# Altium schematic symbol library kmilo17pet-Maxim_Sensors.SchLib: 1172 symbols (part 55 of 61)
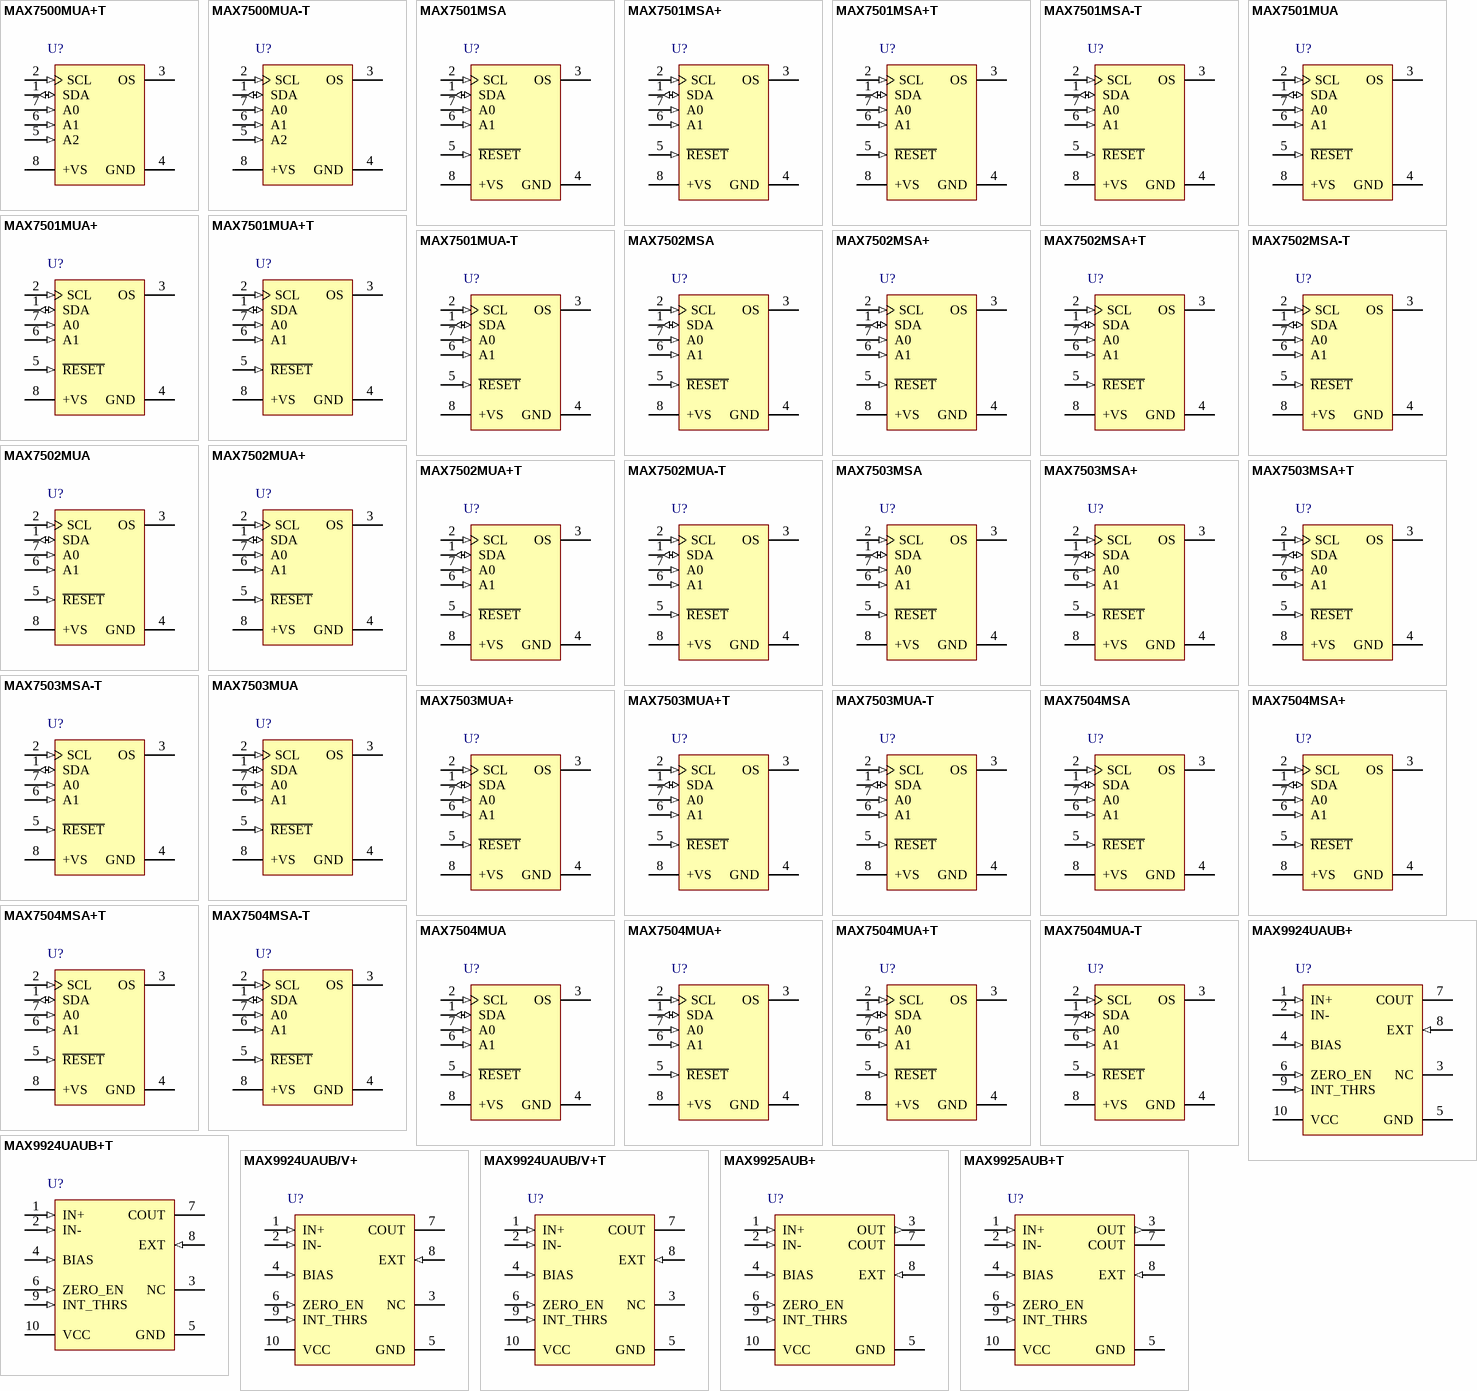
[diagram p87: symbols MAX7500MUA+T to MAX9925AUB+T]

## MAX7502MSA+
designator U?
Digital Temperature Sensor prevents bus lock up, 11 Bits Temperature Resolution, -55 to 125 degC, 8-Pin SOIC (S8+2), Pb-Free; Generic Part Number: MAX7502; PartNumber: MAX7502MSA+; Alarm Output: Overt; Functions: Standalone Thermostat; Interface: 2-Wire/I2C/SMBus; Multi Droppable: Yes; Parasite Pwr.: No; DatasheetVersion: Rev. 4; PackageVersion: Rev. D, 10/2012; PackageReference: S8+2; PackageDescription: 8-Pin Small-Outline IC, Narrow (0.15in) (S8+2), Body 4.90 x 3.90 mm, Pitch 1.27 mm; Supplier 1: Digi-Key; Supplier Part Number 1: MAX7502MSA+-ND; Supplier 2: Mouser; Supplier Part Number 2: 700-MAX7502MSA; Mounting Technology: Surface Mount; Code_JEDEC: MS012; ComponentLink1Description: Manufacturer URL; ComponentLink1URL: http://www.maximintegrated.com/; ComponentLink2Description: Datasheet; ComponentLink2URL: http://datasheets.maximintegrated.com/en/ds/MAX7500-MAX7504.pdf; ComponentLink3Description: Package Specification; ComponentLink3URL: http://pdfserv.maximintegrated.com/package_dwgs/21-0041.PDF
footprint MAXM-S8+2_N (SOIC, 8-Leads, Body 4.90x3.90mm, Pitch 1.27mm, IPC Medium Density)
footprint MAXM-S8+2_L (SOIC, 8-Leads, Body 4.90x3.90mm, Pitch 1.27mm, IPC High Density)
footprint MAXM-S8+2_M (SOIC, 8-Leads, Body 4.90x3.90mm, Pitch 1.27mm, IPC Low Density)
pins: 1 SDA (io) "Serial Data Input/Output Line. Open drain. Connect SDA to a pullup resistor.", 2 SCL (in) "Serial Data Clock Input. Open drain. Connect SCL to a pullup resistor.", 3 OS (oc) "Overtemperature Shutdown Output. Open drain. Connect OS to a pullup resistor.", 4 GND (power) "Ground", 5 ~{RESET} (in) "Active-Low Reset Input. Pull R\E\S\E\T\ low for longer than the minimum reset pulse width to reset the I2C bus and all internal registers to their POR values.", 6 A1 (in) "2-Wire Interface Address Input. Connect A1 to GND or +VS to set the desired I2C bus address. Do not leave unconnected (see Table 1).", 7 A0 (in) "2-Wire Interface Address Input. Connect A0 to GND or +VS to set the desired I2C bus address. Do not leave unconnected (see Table 1).", 8 +VS (power) "Positive Supply Voltage Input. Bypass to GND with a 0.1uF bypass capacitor."

## MAX7502MSA+T
designator U?
Digital Temperature Sensor prevents bus lock up, 11 Bits Temperature Resolution, -55 to 125 degC, 8-Pin SOIC (S8+2), Pb-Free, Tape and Reel; Generic Part Number: MAX7502; PartNumber: MAX7502MSA+T; Alarm Output: Overt; Functions: Standalone Thermostat; Interface: 2-Wire/I2C/SMBus; Multi Droppable: Yes; Parasite Pwr.: No; DatasheetVersion: Rev. 4; PackageVersion: Rev. D, 10/2012; PackageReference: S8+2; PackageDescription: 8-Pin Small-Outline IC, Narrow (0.15in) (S8+2), Body 4.90 x 3.90 mm, Pitch 1.27 mm; Supplier 1: Digi-Key; Supplier Part Number 1: MAX7502MSA+T-ND; Supplier 2: Mouser; Supplier Part Number 2: 700-MAX7502MSAT; Packing: Tape and Reel; Mounting Technology: Surface Mount; Code_JEDEC: MS012; ComponentLink1Description: Manufacturer URL; ComponentLink1URL: http://www.maximintegrated.com/; ComponentLink2Description: Datasheet; ComponentLink2URL: http://datasheets.maximintegrated.com/en/ds/MAX7500-MAX7504.pdf; ComponentLink3Description: Package Specification; ComponentLink3URL: http://pdfserv.maximintegrated.com/package_dwgs/21-0041.PDF
footprint MAXM-S8+2_N (SOIC, 8-Leads, Body 4.90x3.90mm, Pitch 1.27mm, IPC Medium Density)
footprint MAXM-S8+2_L (SOIC, 8-Leads, Body 4.90x3.90mm, Pitch 1.27mm, IPC High Density)
footprint MAXM-S8+2_M (SOIC, 8-Leads, Body 4.90x3.90mm, Pitch 1.27mm, IPC Low Density)
pins: 1 SDA (io) "Serial Data Input/Output Line. Open drain. Connect SDA to a pullup resistor.", 2 SCL (in) "Serial Data Clock Input. Open drain. Connect SCL to a pullup resistor.", 3 OS (oc) "Overtemperature Shutdown Output. Open drain. Connect OS to a pullup resistor.", 4 GND (power) "Ground", 5 ~{RESET} (in) "Active-Low Reset Input. Pull R\E\S\E\T\ low for longer than the minimum reset pulse width to reset the I2C bus and all internal registers to their POR values.", 6 A1 (in) "2-Wire Interface Address Input. Connect A1 to GND or +VS to set the desired I2C bus address. Do not leave unconnected (see Table 1).", 7 A0 (in) "2-Wire Interface Address Input. Connect A0 to GND or +VS to set the desired I2C bus address. Do not leave unconnected (see Table 1).", 8 +VS (power) "Positive Supply Voltage Input. Bypass to GND with a 0.1uF bypass capacitor."

## MAX7502MSA-T
designator U?
Digital Temperature Sensor prevents bus lock up, 11 Bits Temperature Resolution, -55 to 125 degC, 8-Pin SOIC (S8-2), Tape and Reel; Generic Part Number: MAX7502; PartNumber: MAX7502MSA-T; Alarm Output: Overt; Functions: Standalone Thermostat; Interface: 2-Wire/I2C/SMBus; Multi Droppable: Yes; Parasite Pwr.: No; DatasheetVersion: Rev. 4; PackageVersion: Rev. D, 10/2012; PackageReference: S8-2; PackageDescription: 8-Pin Small-Outline IC, Narrow (0.15in) (S8-2), Body 4.90 x 3.90 mm, Pitch 1.27 mm; Supplier 1: Mouser; Supplier Part Number 1: N/A; Packing: Tape and Reel; Mounting Technology: Surface Mount; Code_JEDEC: MS012; ComponentLink1Description: Manufacturer URL; ComponentLink1URL: http://www.maximintegrated.com/; ComponentLink2Description: Datasheet; ComponentLink2URL: http://datasheets.maximintegrated.com/en/ds/MAX7500-MAX7504.pdf; ComponentLink3Description: Package Specification; ComponentLink3URL: http://pdfserv.maximintegrated.com/package_dwgs/21-0041.PDF
footprint MAXM-S8-2_N (SOIC, 8-Leads, Body 4.90x3.90mm, Pitch 1.27mm, IPC Medium Density)
footprint MAXM-S8-2_L (SOIC, 8-Leads, Body 4.90x3.90mm, Pitch 1.27mm, IPC High Density)
footprint MAXM-S8-2_M (SOIC, 8-Leads, Body 4.90x3.90mm, Pitch 1.27mm, IPC Low Density)
pins: 1 SDA (io) "Serial Data Input/Output Line. Open drain. Connect SDA to a pullup resistor.", 2 SCL (in) "Serial Data Clock Input. Open drain. Connect SCL to a pullup resistor.", 3 OS (oc) "Overtemperature Shutdown Output. Open drain. Connect OS to a pullup resistor.", 4 GND (power) "Ground", 5 ~{RESET} (in) "Active-Low Reset Input. Pull R\E\S\E\T\ low for longer than the minimum reset pulse width to reset the I2C bus and all internal registers to their POR values.", 6 A1 (in) "2-Wire Interface Address Input. Connect A1 to GND or +VS to set the desired I2C bus address. Do not leave unconnected (see Table 1).", 7 A0 (in) "2-Wire Interface Address Input. Connect A0 to GND or +VS to set the desired I2C bus address. Do not leave unconnected (see Table 1).", 8 +VS (power) "Positive Supply Voltage Input. Bypass to GND with a 0.1uF bypass capacitor."

## MAX7502MUA
designator U?
Digital Temperature Sensor prevents bus lock up, 11 Bits Temperature Resolution, -55 to 125 degC, 8-Pin SOP (U8-1); Generic Part Number: MAX7502; PartNumber: MAX7502MUA; Alarm Output: Overt; Functions: Standalone Thermostat; Interface: 2-Wire/I2C/SMBus; Multi Droppable: Yes; Parasite Pwr.: No; DatasheetVersion: Rev. 4; PackageVersion: Rev. L, 08/2009; PackageReference: U8-1; PackageDescription: 8-Pin Micro-MAX, Thin Shrink Small-Outline (U8-1), Body 3 x 3 mm, Pitch 0.65mm; Supplier 1: Mouser; Supplier Part Number 1: N/A; Mounting Technology: Surface Mount; Code_JEDEC: MO-187; ComponentLink1Description: Manufacturer URL; ComponentLink1URL: http://www.maximintegrated.com/; ComponentLink2Description: Datasheet; ComponentLink2URL: http://datasheets.maximintegrated.com/en/ds/MAX7500-MAX7504.pdf; ComponentLink3Description: Package Specification; ComponentLink3URL: http://pdfserv.maximintegrated.com/package_dwgs/21-0036.PDF
footprint MAXM-U8-1_N (SOP, 8-Leads, Body 3x3mm, Pitch 0.65mm, IPC Medium Density)
footprint MAXM-U8-1_L (SOP, 8-Leads, Body 3x3mm, Pitch 0.65mm, IPC High Density)
footprint MAXM-U8-1_M (SOP, 8-Leads, Body 3x3mm, Pitch 0.65mm, IPC Low Density)
pins: 1 SDA (io) "Serial Data Input/Output Line. Open drain. Connect SDA to a pullup resistor.", 2 SCL (in) "Serial Data Clock Input. Open drain. Connect SCL to a pullup resistor.", 3 OS (oc) "Overtemperature Shutdown Output. Open drain. Connect OS to a pullup resistor.", 4 GND (power) "Ground", 5 ~{RESET} (in) "Active-Low Reset Input. Pull R\E\S\E\T\ low for longer than the minimum reset pulse width to reset the I2C bus and all internal registers to their POR values.", 6 A1 (in) "2-Wire Interface Address Input. Connect A1 to GND or +VS to set the desired I2C bus address. Do not leave unconnected (see Table 1).", 7 A0 (in) "2-Wire Interface Address Input. Connect A0 to GND or +VS to set the desired I2C bus address. Do not leave unconnected (see Table 1).", 8 +VS (power) "Positive Supply Voltage Input. Bypass to GND with a 0.1uF bypass capacitor."

## MAX7502MUA+
designator U?
Digital Temperature Sensor prevents bus lock up, 11 Bits Temperature Resolution, -55 to 125 degC, 8-Pin SOP (U8+1), Pb-Free; Generic Part Number: MAX7502; PartNumber: MAX7502MUA+; Alarm Output: Overt; Functions: Standalone Thermostat; Interface: 2-Wire/I2C/SMBus; Multi Droppable: Yes; Parasite Pwr.: No; DatasheetVersion: Rev. 4; PackageVersion: Rev. L, 08/2009; PackageReference: U8+1; PackageDescription: 8-Pin Micro-MAX, Thin Shrink Small-Outline (U8+1), Body 3 x 3 mm, Pitch 0.65 mm; Supplier 1: Digi-Key; Supplier Part Number 1: MAX7502MUA+-ND; Supplier 2: Mouser; Supplier Part Number 2: 700-MAX7502MUA; Mounting Technology: Surface Mount; Code_JEDEC: MO-187; ComponentLink1Description: Manufacturer URL; ComponentLink1URL: http://www.maximintegrated.com/; ComponentLink2Description: Datasheet; ComponentLink2URL: http://datasheets.maximintegrated.com/en/ds/MAX7500-MAX7504.pdf; ComponentLink3Description: Package Specification; ComponentLink3URL: http://pdfserv.maximintegrated.com/package_dwgs/21-0036.PDF
footprint MAXM-U8+1_N (SOP, 8-Leads, Body 3x3mm, Pitch 0.65mm, IPC Medium Density)
footprint MAXM-U8+1_L (SOP, 8-Leads, Body 3x3mm, Pitch 0.65mm, IPC High Density)
footprint MAXM-U8+1_M (SOP, 8-Leads, Body 3x3mm, Pitch 0.65mm, IPC Low Density)
pins: 1 SDA (io) "Serial Data Input/Output Line. Open drain. Connect SDA to a pullup resistor.", 2 SCL (in) "Serial Data Clock Input. Open drain. Connect SCL to a pullup resistor.", 3 OS (oc) "Overtemperature Shutdown Output. Open drain. Connect OS to a pullup resistor.", 4 GND (power) "Ground", 5 ~{RESET} (in) "Active-Low Reset Input. Pull R\E\S\E\T\ low for longer than the minimum reset pulse width to reset the I2C bus and all internal registers to their POR values.", 6 A1 (in) "2-Wire Interface Address Input. Connect A1 to GND or +VS to set the desired I2C bus address. Do not leave unconnected (see Table 1).", 7 A0 (in) "2-Wire Interface Address Input. Connect A0 to GND or +VS to set the desired I2C bus address. Do not leave unconnected (see Table 1).", 8 +VS (power) "Positive Supply Voltage Input. Bypass to GND with a 0.1uF bypass capacitor."

## MAX7502MUA+T
designator U?
Digital Temperature Sensor prevents bus lock up, 11 Bits Temperature Resolution, -55 to 125 degC, 8-Pin SOP (U8+1), Pb-Free, Tape and Reel; Generic Part Number: MAX7502; PartNumber: MAX7502MUA+T; Alarm Output: Overt; Functions: Standalone Thermostat; Interface: 2-Wire/I2C/SMBus; Multi Droppable: Yes; Parasite Pwr.: No; DatasheetVersion: Rev. 4; PackageVersion: Rev. L, 08/2009; PackageReference: U8+1; PackageDescription: 8-Pin Micro-MAX, Thin Shrink Small-Outline (U8+1), Body 3 x 3 mm, Pitch 0.65 mm; Supplier 1: Digi-Key; Supplier Part Number 1: MAX7502MUA+T-ND; Supplier 2: Mouser; Supplier Part Number 2: 700-MAX7502MUAT; Packing: Tape and Reel; Mounting Technology: Surface Mount; Code_JEDEC: MO-187; ComponentLink1Description: Manufacturer URL; ComponentLink1URL: http://www.maximintegrated.com/; ComponentLink2Description: Datasheet; ComponentLink2URL: http://datasheets.maximintegrated.com/en/ds/MAX7500-MAX7504.pdf; ComponentLink3Description: Package Specification; ComponentLink3URL: http://pdfserv.maximintegrated.com/package_dwgs/21-0036.PDF
footprint MAXM-U8+1_N (SOP, 8-Leads, Body 3x3mm, Pitch 0.65mm, IPC Medium Density)
footprint MAXM-U8+1_L (SOP, 8-Leads, Body 3x3mm, Pitch 0.65mm, IPC High Density)
footprint MAXM-U8+1_M (SOP, 8-Leads, Body 3x3mm, Pitch 0.65mm, IPC Low Density)
pins: 1 SDA (io) "Serial Data Input/Output Line. Open drain. Connect SDA to a pullup resistor.", 2 SCL (in) "Serial Data Clock Input. Open drain. Connect SCL to a pullup resistor.", 3 OS (oc) "Overtemperature Shutdown Output. Open drain. Connect OS to a pullup resistor.", 4 GND (power) "Ground", 5 ~{RESET} (in) "Active-Low Reset Input. Pull R\E\S\E\T\ low for longer than the minimum reset pulse width to reset the I2C bus and all internal registers to their POR values.", 6 A1 (in) "2-Wire Interface Address Input. Connect A1 to GND or +VS to set the desired I2C bus address. Do not leave unconnected (see Table 1).", 7 A0 (in) "2-Wire Interface Address Input. Connect A0 to GND or +VS to set the desired I2C bus address. Do not leave unconnected (see Table 1).", 8 +VS (power) "Positive Supply Voltage Input. Bypass to GND with a 0.1uF bypass capacitor."

## MAX7502MUA-T
designator U?
Digital Temperature Sensor prevents bus lock up, 11 Bits Temperature Resolution, -55 to 125 degC, 8-Pin SOP (U8-1), Tape and Reel; Generic Part Number: MAX7502; PartNumber: MAX7502MUA-T; Alarm Output: Overt; Functions: Standalone Thermostat; Interface: 2-Wire/I2C/SMBus; Multi Droppable: Yes; Parasite Pwr.: No; DatasheetVersion: Rev. 4; PackageVersion: Rev. L, 08/2009; PackageReference: U8-1; PackageDescription: 8-Pin Micro-MAX, Thin Shrink Small-Outline (U8-1), Body 3 x 3 mm, Pitch 0.65mm; Supplier 1: Mouser; Supplier Part Number 1: N/A; Packing: Tape and Reel; Mounting Technology: Surface Mount; Code_JEDEC: MO-187; ComponentLink1Description: Manufacturer URL; ComponentLink1URL: http://www.maximintegrated.com/; ComponentLink2Description: Datasheet; ComponentLink2URL: http://datasheets.maximintegrated.com/en/ds/MAX7500-MAX7504.pdf; ComponentLink3Description: Package Specification; ComponentLink3URL: http://pdfserv.maximintegrated.com/package_dwgs/21-0036.PDF
footprint MAXM-U8-1_N (SOP, 8-Leads, Body 3x3mm, Pitch 0.65mm, IPC Medium Density)
footprint MAXM-U8-1_L (SOP, 8-Leads, Body 3x3mm, Pitch 0.65mm, IPC High Density)
footprint MAXM-U8-1_M (SOP, 8-Leads, Body 3x3mm, Pitch 0.65mm, IPC Low Density)
pins: 1 SDA (io) "Serial Data Input/Output Line. Open drain. Connect SDA to a pullup resistor.", 2 SCL (in) "Serial Data Clock Input. Open drain. Connect SCL to a pullup resistor.", 3 OS (oc) "Overtemperature Shutdown Output. Open drain. Connect OS to a pullup resistor.", 4 GND (power) "Ground", 5 ~{RESET} (in) "Active-Low Reset Input. Pull R\E\S\E\T\ low for longer than the minimum reset pulse width to reset the I2C bus and all internal registers to their POR values.", 6 A1 (in) "2-Wire Interface Address Input. Connect A1 to GND or +VS to set the desired I2C bus address. Do not leave unconnected (see Table 1).", 7 A0 (in) "2-Wire Interface Address Input. Connect A0 to GND or +VS to set the desired I2C bus address. Do not leave unconnected (see Table 1).", 8 +VS (power) "Positive Supply Voltage Input. Bypass to GND with a 0.1uF bypass capacitor."

## MAX7503MSA
designator U?
Digital Temperature Sensor and Thermal Watchdog, 11 Bits Temperature Resolution, -55 to 125 degC, 8-Pin SOIC (S8-2); Generic Part Number: MAX7503; PartNumber: MAX7503MSA; Alarm Output: Overt; Functions: Standalone Thermostat; Interface: 2-Wire/I2C/SMBus; Multi Droppable: Yes; Parasite Pwr.: No; DatasheetVersion: Rev. 4; PackageVersion: Rev. D, 10/2012; PackageReference: S8-2; PackageDescription: 8-Pin Small-Outline IC, Narrow (0.15in) (S8-2), Body 4.90 x 3.90 mm, Pitch 1.27 mm; Supplier 1: Mouser; Supplier Part Number 1: N/A; Mounting Technology: Surface Mount; Code_JEDEC: MS012; ComponentLink1Description: Manufacturer URL; ComponentLink1URL: http://www.maximintegrated.com/; ComponentLink2Description: Datasheet; ComponentLink2URL: http://datasheets.maximintegrated.com/en/ds/MAX7500-MAX7504.pdf; ComponentLink3Description: Package Specification; ComponentLink3URL: http://pdfserv.maximintegrated.com/package_dwgs/21-0041.PDF
footprint MAXM-S8-2_N (SOIC, 8-Leads, Body 4.90x3.90mm, Pitch 1.27mm, IPC Medium Density)
footprint MAXM-S8-2_L (SOIC, 8-Leads, Body 4.90x3.90mm, Pitch 1.27mm, IPC High Density)
footprint MAXM-S8-2_M (SOIC, 8-Leads, Body 4.90x3.90mm, Pitch 1.27mm, IPC Low Density)
pins: 1 SDA (io) "Serial Data Input/Output Line. Open drain. Connect SDA to a pullup resistor.", 2 SCL (in) "Serial Data Clock Input. Open drain. Connect SCL to a pullup resistor.", 3 OS (oc) "Overtemperature Shutdown Output. Open drain. Connect OS to a pullup resistor.", 4 GND (power) "Ground", 5 ~{RESET} (in) "Active-Low Reset Input. Pull R\E\S\E\T\ low for longer than the minimum reset pulse width to reset the I2C bus and all internal registers to their POR values.", 6 A1 (in) "2-Wire Interface Address Input. Connect A1 to GND or +VS to set the desired I2C bus address. Do not leave unconnected (see Table 1).", 7 A0 (in) "2-Wire Interface Address Input. Connect A0 to GND or +VS to set the desired I2C bus address. Do not leave unconnected (see Table 1).", 8 +VS (power) "Positive Supply Voltage Input. Bypass to GND with a 0.1uF bypass capacitor."

## MAX7503MSA+
designator U?
Digital Temperature Sensor and Thermal Watchdog, 11 Bits Temperature Resolution, -55 to 125 degC, 8-Pin SOIC (S8+2), Pb-Free; Generic Part Number: MAX7503; PartNumber: MAX7503MSA+; Alarm Output: Overt; Functions: Standalone Thermostat; Interface: 2-Wire/I2C/SMBus; Multi Droppable: Yes; Parasite Pwr.: No; DatasheetVersion: Rev. 4; PackageVersion: Rev. D, 10/2012; PackageReference: S8+2; PackageDescription: 8-Pin Small-Outline IC, Narrow (0.15in) (S8+2), Body 4.90 x 3.90 mm, Pitch 1.27 mm; Supplier 1: Digi-Key; Supplier Part Number 1: MAX7503MSA+-ND; Supplier 2: Mouser; Supplier Part Number 2: 700-MAX7503MSA; Mounting Technology: Surface Mount; Code_JEDEC: MS012; ComponentLink1Description: Manufacturer URL; ComponentLink1URL: http://www.maximintegrated.com/; ComponentLink2Description: Datasheet; ComponentLink2URL: http://datasheets.maximintegrated.com/en/ds/MAX7500-MAX7504.pdf; ComponentLink3Description: Package Specification; ComponentLink3URL: http://pdfserv.maximintegrated.com/package_dwgs/21-0041.PDF
footprint MAXM-S8+2_N (SOIC, 8-Leads, Body 4.90x3.90mm, Pitch 1.27mm, IPC Medium Density)
footprint MAXM-S8+2_L (SOIC, 8-Leads, Body 4.90x3.90mm, Pitch 1.27mm, IPC High Density)
footprint MAXM-S8+2_M (SOIC, 8-Leads, Body 4.90x3.90mm, Pitch 1.27mm, IPC Low Density)
pins: 1 SDA (io) "Serial Data Input/Output Line. Open drain. Connect SDA to a pullup resistor.", 2 SCL (in) "Serial Data Clock Input. Open drain. Connect SCL to a pullup resistor.", 3 OS (oc) "Overtemperature Shutdown Output. Open drain. Connect OS to a pullup resistor.", 4 GND (power) "Ground", 5 ~{RESET} (in) "Active-Low Reset Input. Pull R\E\S\E\T\ low for longer than the minimum reset pulse width to reset the I2C bus and all internal registers to their POR values.", 6 A1 (in) "2-Wire Interface Address Input. Connect A1 to GND or +VS to set the desired I2C bus address. Do not leave unconnected (see Table 1).", 7 A0 (in) "2-Wire Interface Address Input. Connect A0 to GND or +VS to set the desired I2C bus address. Do not leave unconnected (see Table 1).", 8 +VS (power) "Positive Supply Voltage Input. Bypass to GND with a 0.1uF bypass capacitor."

## MAX7503MSA+T
designator U?
Digital Temperature Sensor and Thermal Watchdog, 11 Bits Temperature Resolution, -55 to 125 degC, 8-Pin SOIC (S8+2), Pb-Free, Tape and Reel; Generic Part Number: MAX7503; PartNumber: MAX7503MSA+T; Alarm Output: Overt; Functions: Standalone Thermostat; Interface: 2-Wire/I2C/SMBus; Multi Droppable: Yes; Parasite Pwr.: No; DatasheetVersion: Rev. 4; PackageVersion: Rev. D, 10/2012; PackageReference: S8+2; PackageDescription: 8-Pin Small-Outline IC, Narrow (0.15in) (S8+2), Body 4.90 x 3.90 mm, Pitch 1.27 mm; Supplier 1: Digi-Key; Supplier Part Number 1: MAX7503MSA+T-ND; Supplier 2: Mouser; Supplier Part Number 2: 700-MAX7503MSAT; Packing: Tape and Reel; Mounting Technology: Surface Mount; Code_JEDEC: MS012; ComponentLink1Description: Manufacturer URL; ComponentLink1URL: http://www.maximintegrated.com/; ComponentLink2Description: Datasheet; ComponentLink2URL: http://datasheets.maximintegrated.com/en/ds/MAX7500-MAX7504.pdf; ComponentLink3Description: Package Specification; ComponentLink3URL: http://pdfserv.maximintegrated.com/package_dwgs/21-0041.PDF
footprint MAXM-S8+2_N (SOIC, 8-Leads, Body 4.90x3.90mm, Pitch 1.27mm, IPC Medium Density)
footprint MAXM-S8+2_L (SOIC, 8-Leads, Body 4.90x3.90mm, Pitch 1.27mm, IPC High Density)
footprint MAXM-S8+2_M (SOIC, 8-Leads, Body 4.90x3.90mm, Pitch 1.27mm, IPC Low Density)
pins: 1 SDA (io) "Serial Data Input/Output Line. Open drain. Connect SDA to a pullup resistor.", 2 SCL (in) "Serial Data Clock Input. Open drain. Connect SCL to a pullup resistor.", 3 OS (oc) "Overtemperature Shutdown Output. Open drain. Connect OS to a pullup resistor.", 4 GND (power) "Ground", 5 ~{RESET} (in) "Active-Low Reset Input. Pull R\E\S\E\T\ low for longer than the minimum reset pulse width to reset the I2C bus and all internal registers to their POR values.", 6 A1 (in) "2-Wire Interface Address Input. Connect A1 to GND or +VS to set the desired I2C bus address. Do not leave unconnected (see Table 1).", 7 A0 (in) "2-Wire Interface Address Input. Connect A0 to GND or +VS to set the desired I2C bus address. Do not leave unconnected (see Table 1).", 8 +VS (power) "Positive Supply Voltage Input. Bypass to GND with a 0.1uF bypass capacitor."

## MAX7503MSA-T
designator U?
Digital Temperature Sensor and Thermal Watchdog, 11 Bits Temperature Resolution, -55 to 125 degC, 8-Pin SOIC (S8-2), Tape and Reel; Generic Part Number: MAX7503; PartNumber: MAX7503MSA-T; Alarm Output: Overt; Functions: Standalone Thermostat; Interface: 2-Wire/I2C/SMBus; Multi Droppable: Yes; Parasite Pwr.: No; DatasheetVersion: Rev. 4; PackageVersion: Rev. D, 10/2012; PackageReference: S8-2; PackageDescription: 8-Pin Small-Outline IC, Narrow (0.15in) (S8-2), Body 4.90 x 3.90 mm, Pitch 1.27 mm; Supplier 1: Mouser; Supplier Part Number 1: N/A; Packing: Tape and Reel; Mounting Technology: Surface Mount; Code_JEDEC: MS012; ComponentLink1Description: Manufacturer URL; ComponentLink1URL: http://www.maximintegrated.com/; ComponentLink2Description: Datasheet; ComponentLink2URL: http://datasheets.maximintegrated.com/en/ds/MAX7500-MAX7504.pdf; ComponentLink3Description: Package Specification; ComponentLink3URL: http://pdfserv.maximintegrated.com/package_dwgs/21-0041.PDF
footprint MAXM-S8-2_N (SOIC, 8-Leads, Body 4.90x3.90mm, Pitch 1.27mm, IPC Medium Density)
footprint MAXM-S8-2_L (SOIC, 8-Leads, Body 4.90x3.90mm, Pitch 1.27mm, IPC High Density)
footprint MAXM-S8-2_M (SOIC, 8-Leads, Body 4.90x3.90mm, Pitch 1.27mm, IPC Low Density)
pins: 1 SDA (io) "Serial Data Input/Output Line. Open drain. Connect SDA to a pullup resistor.", 2 SCL (in) "Serial Data Clock Input. Open drain. Connect SCL to a pullup resistor.", 3 OS (oc) "Overtemperature Shutdown Output. Open drain. Connect OS to a pullup resistor.", 4 GND (power) "Ground", 5 ~{RESET} (in) "Active-Low Reset Input. Pull R\E\S\E\T\ low for longer than the minimum reset pulse width to reset the I2C bus and all internal registers to their POR values.", 6 A1 (in) "2-Wire Interface Address Input. Connect A1 to GND or +VS to set the desired I2C bus address. Do not leave unconnected (see Table 1).", 7 A0 (in) "2-Wire Interface Address Input. Connect A0 to GND or +VS to set the desired I2C bus address. Do not leave unconnected (see Table 1).", 8 +VS (power) "Positive Supply Voltage Input. Bypass to GND with a 0.1uF bypass capacitor."

## MAX7503MUA
designator U?
Digital Temperature Sensor and Thermal Watchdog, 11 Bits Temperature Resolution, -55 to 125 degC, 8-Pin SOP (U8-1); Generic Part Number: MAX7503; PartNumber: MAX7503MUA; Alarm Output: Overt; Functions: Standalone Thermostat; Interface: 2-Wire/I2C/SMBus; Multi Droppable: Yes; Parasite Pwr.: No; DatasheetVersion: Rev. 4; PackageVersion: Rev. L, 08/2009; PackageReference: U8-1; PackageDescription: 8-Pin Micro-MAX, Thin Shrink Small-Outline (U8-1), Body 3 x 3 mm, Pitch 0.65mm; Supplier 1: Mouser; Supplier Part Number 1: N/A; Mounting Technology: Surface Mount; Code_JEDEC: MO-187; ComponentLink1Description: Manufacturer URL; ComponentLink1URL: http://www.maximintegrated.com/; ComponentLink2Description: Datasheet; ComponentLink2URL: http://datasheets.maximintegrated.com/en/ds/MAX7500-MAX7504.pdf; ComponentLink3Description: Package Specification; ComponentLink3URL: http://pdfserv.maximintegrated.com/package_dwgs/21-0036.PDF
footprint MAXM-U8-1_N (SOP, 8-Leads, Body 3x3mm, Pitch 0.65mm, IPC Medium Density)
footprint MAXM-U8-1_L (SOP, 8-Leads, Body 3x3mm, Pitch 0.65mm, IPC High Density)
footprint MAXM-U8-1_M (SOP, 8-Leads, Body 3x3mm, Pitch 0.65mm, IPC Low Density)
pins: 1 SDA (io) "Serial Data Input/Output Line. Open drain. Connect SDA to a pullup resistor.", 2 SCL (in) "Serial Data Clock Input. Open drain. Connect SCL to a pullup resistor.", 3 OS (oc) "Overtemperature Shutdown Output. Open drain. Connect OS to a pullup resistor.", 4 GND (power) "Ground", 5 ~{RESET} (in) "Active-Low Reset Input. Pull R\E\S\E\T\ low for longer than the minimum reset pulse width to reset the I2C bus and all internal registers to their POR values.", 6 A1 (in) "2-Wire Interface Address Input. Connect A1 to GND or +VS to set the desired I2C bus address. Do not leave unconnected (see Table 1).", 7 A0 (in) "2-Wire Interface Address Input. Connect A0 to GND or +VS to set the desired I2C bus address. Do not leave unconnected (see Table 1).", 8 +VS (power) "Positive Supply Voltage Input. Bypass to GND with a 0.1uF bypass capacitor."

## MAX7503MUA+
designator U?
Digital Temperature Sensor and Thermal Watchdog, 11 Bits Temperature Resolution, -55 to 125 degC, 8-Pin SOP (U8+1), Pb-Free; Generic Part Number: MAX7503; PartNumber: MAX7503MUA+; Alarm Output: Overt; Functions: Standalone Thermostat; Interface: 2-Wire/I2C/SMBus; Multi Droppable: Yes; Parasite Pwr.: No; DatasheetVersion: Rev. 4; PackageVersion: Rev. L, 08/2009; PackageReference: U8+1; PackageDescription: 8-Pin Micro-MAX, Thin Shrink Small-Outline (U8+1), Body 3 x 3 mm, Pitch 0.65 mm; Supplier 1: Digi-Key; Supplier Part Number 1: MAX7503MUA+-ND; Supplier 2: Mouser; Supplier Part Number 2: 700-MAX7503MUA; Mounting Technology: Surface Mount; Code_JEDEC: MO-187; ComponentLink1Description: Manufacturer URL; ComponentLink1URL: http://www.maximintegrated.com/; ComponentLink2Description: Datasheet; ComponentLink2URL: http://datasheets.maximintegrated.com/en/ds/MAX7500-MAX7504.pdf; ComponentLink3Description: Package Specification; ComponentLink3URL: http://pdfserv.maximintegrated.com/package_dwgs/21-0036.PDF
footprint MAXM-U8+1_N (SOP, 8-Leads, Body 3x3mm, Pitch 0.65mm, IPC Medium Density)
footprint MAXM-U8+1_L (SOP, 8-Leads, Body 3x3mm, Pitch 0.65mm, IPC High Density)
footprint MAXM-U8+1_M (SOP, 8-Leads, Body 3x3mm, Pitch 0.65mm, IPC Low Density)
pins: 1 SDA (io) "Serial Data Input/Output Line. Open drain. Connect SDA to a pullup resistor.", 2 SCL (in) "Serial Data Clock Input. Open drain. Connect SCL to a pullup resistor.", 3 OS (oc) "Overtemperature Shutdown Output. Open drain. Connect OS to a pullup resistor.", 4 GND (power) "Ground", 5 ~{RESET} (in) "Active-Low Reset Input. Pull R\E\S\E\T\ low for longer than the minimum reset pulse width to reset the I2C bus and all internal registers to their POR values.", 6 A1 (in) "2-Wire Interface Address Input. Connect A1 to GND or +VS to set the desired I2C bus address. Do not leave unconnected (see Table 1).", 7 A0 (in) "2-Wire Interface Address Input. Connect A0 to GND or +VS to set the desired I2C bus address. Do not leave unconnected (see Table 1).", 8 +VS (power) "Positive Supply Voltage Input. Bypass to GND with a 0.1uF bypass capacitor."

## MAX7503MUA+T
designator U?
Digital Temperature Sensor and Thermal Watchdog, 11 Bits Temperature Resolution, -55 to 125 degC, 8-Pin SOP (U8+1), Pb-Free, Tape and Reel; Generic Part Number: MAX7503; PartNumber: MAX7503MUA+T; Alarm Output: Overt; Functions: Standalone Thermostat; Interface: 2-Wire/I2C/SMBus; Multi Droppable: Yes; Parasite Pwr.: No; DatasheetVersion: Rev. 4; PackageVersion: Rev. L, 08/2009; PackageReference: U8+1; PackageDescription: 8-Pin Micro-MAX, Thin Shrink Small-Outline (U8+1), Body 3 x 3 mm, Pitch 0.65 mm; Supplier 1: Digi-Key; Supplier Part Number 1: MAX7503MUA+T-ND; Supplier 2: Mouser; Supplier Part Number 2: 700-MAX7503MUAT; Packing: Tape and Reel; Mounting Technology: Surface Mount; Code_JEDEC: MO-187; ComponentLink1Description: Manufacturer URL; ComponentLink1URL: http://www.maximintegrated.com/; ComponentLink2Description: Datasheet; ComponentLink2URL: http://datasheets.maximintegrated.com/en/ds/MAX7500-MAX7504.pdf; ComponentLink3Description: Package Specification; ComponentLink3URL: http://pdfserv.maximintegrated.com/package_dwgs/21-0036.PDF
footprint MAXM-U8+1_N (SOP, 8-Leads, Body 3x3mm, Pitch 0.65mm, IPC Medium Density)
footprint MAXM-U8+1_L (SOP, 8-Leads, Body 3x3mm, Pitch 0.65mm, IPC High Density)
footprint MAXM-U8+1_M (SOP, 8-Leads, Body 3x3mm, Pitch 0.65mm, IPC Low Density)
pins: 1 SDA (io) "Serial Data Input/Output Line. Open drain. Connect SDA to a pullup resistor.", 2 SCL (in) "Serial Data Clock Input. Open drain. Connect SCL to a pullup resistor.", 3 OS (oc) "Overtemperature Shutdown Output. Open drain. Connect OS to a pullup resistor.", 4 GND (power) "Ground", 5 ~{RESET} (in) "Active-Low Reset Input. Pull R\E\S\E\T\ low for longer than the minimum reset pulse width to reset the I2C bus and all internal registers to their POR values.", 6 A1 (in) "2-Wire Interface Address Input. Connect A1 to GND or +VS to set the desired I2C bus address. Do not leave unconnected (see Table 1).", 7 A0 (in) "2-Wire Interface Address Input. Connect A0 to GND or +VS to set the desired I2C bus address. Do not leave unconnected (see Table 1).", 8 +VS (power) "Positive Supply Voltage Input. Bypass to GND with a 0.1uF bypass capacitor."

## MAX7503MUA-T
designator U?
Digital Temperature Sensor and Thermal Watchdog, 11 Bits Temperature Resolution, -55 to 125 degC, 8-Pin SOP (U8-1), Tape and Reel; Generic Part Number: MAX7503; PartNumber: MAX7503MUA-T; Alarm Output: Overt; Functions: Standalone Thermostat; Interface: 2-Wire/I2C/SMBus; Multi Droppable: Yes; Parasite Pwr.: No; DatasheetVersion: Rev. 4; PackageVersion: Rev. L, 08/2009; PackageReference: U8-1; PackageDescription: 8-Pin Micro-MAX, Thin Shrink Small-Outline (U8-1), Body 3 x 3 mm, Pitch 0.65mm; Supplier 1: Mouser; Supplier Part Number 1: N/A; Packing: Tape and Reel; Mounting Technology: Surface Mount; Code_JEDEC: MO-187; ComponentLink1Description: Manufacturer URL; ComponentLink1URL: http://www.maximintegrated.com/; ComponentLink2Description: Datasheet; ComponentLink2URL: http://datasheets.maximintegrated.com/en/ds/MAX7500-MAX7504.pdf; ComponentLink3Description: Package Specification; ComponentLink3URL: http://pdfserv.maximintegrated.com/package_dwgs/21-0036.PDF
footprint MAXM-U8-1_N (SOP, 8-Leads, Body 3x3mm, Pitch 0.65mm, IPC Medium Density)
footprint MAXM-U8-1_L (SOP, 8-Leads, Body 3x3mm, Pitch 0.65mm, IPC High Density)
footprint MAXM-U8-1_M (SOP, 8-Leads, Body 3x3mm, Pitch 0.65mm, IPC Low Density)
pins: 1 SDA (io) "Serial Data Input/Output Line. Open drain. Connect SDA to a pullup resistor.", 2 SCL (in) "Serial Data Clock Input. Open drain. Connect SCL to a pullup resistor.", 3 OS (oc) "Overtemperature Shutdown Output. Open drain. Connect OS to a pullup resistor.", 4 GND (power) "Ground", 5 ~{RESET} (in) "Active-Low Reset Input. Pull R\E\S\E\T\ low for longer than the minimum reset pulse width to reset the I2C bus and all internal registers to their POR values.", 6 A1 (in) "2-Wire Interface Address Input. Connect A1 to GND or +VS to set the desired I2C bus address. Do not leave unconnected (see Table 1).", 7 A0 (in) "2-Wire Interface Address Input. Connect A0 to GND or +VS to set the desired I2C bus address. Do not leave unconnected (see Table 1).", 8 +VS (power) "Positive Supply Voltage Input. Bypass to GND with a 0.1uF bypass capacitor."

## MAX7504MSA
designator U?
Digital Temperature Sensor and Thermal Watchdog, -55 to 125 degC, 8-Pin SOIC (S8-2); Generic Part Number: MAX7504; PartNumber: MAX7504MSA; Alarm Output: Overt; Functions: Single Temperature Alarm; Interface: 2-Wire/I2C/SMBus; Multi Droppable: Yes; DatasheetVersion: Rev. 4; PackageVersion: Rev. D, 10/2012; PackageReference: S8-2; PackageDescription: 8-Pin Small-Outline IC, Narrow (0.15in) (S8-2), Body 4.90 x 3.90 mm, Pitch 1.27 mm; Supplier 1: Mouser; Supplier Part Number 1: N/A; Mounting Technology: Surface Mount; Code_JEDEC: MS012; ComponentLink1Description: Manufacturer URL; ComponentLink1URL: http://www.maximintegrated.com/; ComponentLink2Description: Datasheet; ComponentLink2URL: http://datasheets.maximintegrated.com/en/ds/MAX7500-MAX7504.pdf; ComponentLink3Description: Package Specification; ComponentLink3URL: http://pdfserv.maximintegrated.com/package_dwgs/21-0041.PDF
footprint MAXM-S8-2_N (SOIC, 8-Leads, Body 4.90x3.90mm, Pitch 1.27mm, IPC Medium Density)
footprint MAXM-S8-2_L (SOIC, 8-Leads, Body 4.90x3.90mm, Pitch 1.27mm, IPC High Density)
footprint MAXM-S8-2_M (SOIC, 8-Leads, Body 4.90x3.90mm, Pitch 1.27mm, IPC Low Density)
pins: 1 SDA (io) "Serial Data Input/Output Line. Open drain. Connect SDA to a pullup resistor.", 2 SCL (in) "Serial Data Clock Input. Open drain. Connect SCL to a pullup resistor.", 3 OS (oc) "Overtemperature Shutdown Output. Open drain. Connect OS to a pullup resistor.", 4 GND (power) "Ground", 5 ~{RESET} (in) "Active-Low Reset Input. Pull R\E\S\E\T\ low for longer than the minimum reset pulse width to reset the I2C bus and all internal registers to their POR values.", 6 A1 (in) "2-Wire Interface Address Input. Connect A1 to GND or +VS to set the desired I2C bus address. Do not leave unconnected (see Table 1).", 7 A0 (in) "2-Wire Interface Address Input. Connect A0 to GND or +VS to set the desired I2C bus address. Do not leave unconnected (see Table 1).", 8 +VS (power) "Positive Supply Voltage Input. Bypass to GND with a 0.1uF bypass capacitor."

## MAX7504MSA+
designator U?
Digital Temperature Sensor and Thermal Watchdog, -55 to 125 degC, 8-Pin SOIC (S8+2), Pb-Free; Generic Part Number: MAX7504; PartNumber: MAX7504MSA+; Alarm Output: Overt; Functions: Single Temperature Alarm; Interface: 2-Wire/I2C/SMBus; Multi Droppable: Yes; DatasheetVersion: Rev. 4; PackageVersion: Rev. D, 10/2012; PackageReference: S8+2; PackageDescription: 8-Pin Small-Outline IC, Narrow (0.15in) (S8+2), Body 4.90 x 3.90 mm, Pitch 1.27 mm; Supplier 1: Digi-Key; Supplier Part Number 1: MAX7504MSA+-ND; Supplier 2: Mouser; Supplier Part Number 2: 700-MAX7504MSA; Mounting Technology: Surface Mount; Code_JEDEC: MS012; ComponentLink1Description: Manufacturer URL; ComponentLink1URL: http://www.maximintegrated.com/; ComponentLink2Description: Datasheet; ComponentLink2URL: http://datasheets.maximintegrated.com/en/ds/MAX7500-MAX7504.pdf; ComponentLink3Description: Package Specification; ComponentLink3URL: http://pdfserv.maximintegrated.com/package_dwgs/21-0041.PDF
footprint MAXM-S8+2_N (SOIC, 8-Leads, Body 4.90x3.90mm, Pitch 1.27mm, IPC Medium Density)
footprint MAXM-S8+2_L (SOIC, 8-Leads, Body 4.90x3.90mm, Pitch 1.27mm, IPC High Density)
footprint MAXM-S8+2_M (SOIC, 8-Leads, Body 4.90x3.90mm, Pitch 1.27mm, IPC Low Density)
pins: 1 SDA (io) "Serial Data Input/Output Line. Open drain. Connect SDA to a pullup resistor.", 2 SCL (in) "Serial Data Clock Input. Open drain. Connect SCL to a pullup resistor.", 3 OS (oc) "Overtemperature Shutdown Output. Open drain. Connect OS to a pullup resistor.", 4 GND (power) "Ground", 5 ~{RESET} (in) "Active-Low Reset Input. Pull R\E\S\E\T\ low for longer than the minimum reset pulse width to reset the I2C bus and all internal registers to their POR values.", 6 A1 (in) "2-Wire Interface Address Input. Connect A1 to GND or +VS to set the desired I2C bus address. Do not leave unconnected (see Table 1).", 7 A0 (in) "2-Wire Interface Address Input. Connect A0 to GND or +VS to set the desired I2C bus address. Do not leave unconnected (see Table 1).", 8 +VS (power) "Positive Supply Voltage Input. Bypass to GND with a 0.1uF bypass capacitor."

## MAX7504MSA+T
designator U?
Digital Temperature Sensor and Thermal Watchdog, -55 to 125 degC, 8-Pin SOIC (S8+2), Pb-Free, Tape and Reel; Generic Part Number: MAX7504; PartNumber: MAX7504MSA+T; Alarm Output: Overt; Functions: Single Temperature Alarm; Interface: 2-Wire/I2C/SMBus; Multi Droppable: Yes; DatasheetVersion: Rev. 4; PackageVersion: Rev. D, 10/2012; PackageReference: S8+2; PackageDescription: 8-Pin Small-Outline IC, Narrow (0.15in) (S8+2), Body 4.90 x 3.90 mm, Pitch 1.27 mm; Supplier 1: Digi-Key; Supplier Part Number 1: MAX7504MSA+T-ND; Supplier 2: Mouser; Supplier Part Number 2: 700-MAX7504MSAT; Packing: Tape and Reel; Mounting Technology: Surface Mount; Code_JEDEC: MS012; ComponentLink1Description: Manufacturer URL; ComponentLink1URL: http://www.maximintegrated.com/; ComponentLink2Description: Datasheet; ComponentLink2URL: http://datasheets.maximintegrated.com/en/ds/MAX7500-MAX7504.pdf; ComponentLink3Description: Package Specification; ComponentLink3URL: http://pdfserv.maximintegrated.com/package_dwgs/21-0041.PDF
footprint MAXM-S8+2_N (SOIC, 8-Leads, Body 4.90x3.90mm, Pitch 1.27mm, IPC Medium Density)
footprint MAXM-S8+2_L (SOIC, 8-Leads, Body 4.90x3.90mm, Pitch 1.27mm, IPC High Density)
footprint MAXM-S8+2_M (SOIC, 8-Leads, Body 4.90x3.90mm, Pitch 1.27mm, IPC Low Density)
pins: 1 SDA (io) "Serial Data Input/Output Line. Open drain. Connect SDA to a pullup resistor.", 2 SCL (in) "Serial Data Clock Input. Open drain. Connect SCL to a pullup resistor.", 3 OS (oc) "Overtemperature Shutdown Output. Open drain. Connect OS to a pullup resistor.", 4 GND (power) "Ground", 5 ~{RESET} (in) "Active-Low Reset Input. Pull R\E\S\E\T\ low for longer than the minimum reset pulse width to reset the I2C bus and all internal registers to their POR values.", 6 A1 (in) "2-Wire Interface Address Input. Connect A1 to GND or +VS to set the desired I2C bus address. Do not leave unconnected (see Table 1).", 7 A0 (in) "2-Wire Interface Address Input. Connect A0 to GND or +VS to set the desired I2C bus address. Do not leave unconnected (see Table 1).", 8 +VS (power) "Positive Supply Voltage Input. Bypass to GND with a 0.1uF bypass capacitor."

## MAX7504MSA-T
designator U?
Digital Temperature Sensor and Thermal Watchdog, -55 to 125 degC, 8-Pin SOIC (S8-2), Tape and Reel; Generic Part Number: MAX7504; PartNumber: MAX7504MSA-T; Alarm Output: Overt; Functions: Single Temperature Alarm; Interface: 2-Wire/I2C/SMBus; Multi Droppable: Yes; DatasheetVersion: Rev. 4; PackageVersion: Rev. D, 10/2012; PackageReference: S8-2; PackageDescription: 8-Pin Small-Outline IC, Narrow (0.15in) (S8-2), Body 4.90 x 3.90 mm, Pitch 1.27 mm; Supplier 1: Mouser; Supplier Part Number 1: N/A; Packing: Tape and Reel; Mounting Technology: Surface Mount; Code_JEDEC: MS012; ComponentLink1Description: Manufacturer URL; ComponentLink1URL: http://www.maximintegrated.com/; ComponentLink2Description: Datasheet; ComponentLink2URL: http://datasheets.maximintegrated.com/en/ds/MAX7500-MAX7504.pdf; ComponentLink3Description: Package Specification; ComponentLink3URL: http://pdfserv.maximintegrated.com/package_dwgs/21-0041.PDF
footprint MAXM-S8-2_N (SOIC, 8-Leads, Body 4.90x3.90mm, Pitch 1.27mm, IPC Medium Density)
footprint MAXM-S8-2_L (SOIC, 8-Leads, Body 4.90x3.90mm, Pitch 1.27mm, IPC High Density)
footprint MAXM-S8-2_M (SOIC, 8-Leads, Body 4.90x3.90mm, Pitch 1.27mm, IPC Low Density)
pins: 1 SDA (io) "Serial Data Input/Output Line. Open drain. Connect SDA to a pullup resistor.", 2 SCL (in) "Serial Data Clock Input. Open drain. Connect SCL to a pullup resistor.", 3 OS (oc) "Overtemperature Shutdown Output. Open drain. Connect OS to a pullup resistor.", 4 GND (power) "Ground", 5 ~{RESET} (in) "Active-Low Reset Input. Pull R\E\S\E\T\ low for longer than the minimum reset pulse width to reset the I2C bus and all internal registers to their POR values.", 6 A1 (in) "2-Wire Interface Address Input. Connect A1 to GND or +VS to set the desired I2C bus address. Do not leave unconnected (see Table 1).", 7 A0 (in) "2-Wire Interface Address Input. Connect A0 to GND or +VS to set the desired I2C bus address. Do not leave unconnected (see Table 1).", 8 +VS (power) "Positive Supply Voltage Input. Bypass to GND with a 0.1uF bypass capacitor."

## MAX7504MUA
designator U?
Digital Temperature Sensor and Thermal Watchdog, -55 to 125 degC, 8-Pin SOP (U8-1); Generic Part Number: MAX7504; PartNumber: MAX7504MUA; Alarm Output: Overt; Functions: Single Temperature Alarm; Interface: 2-Wire/I2C/SMBus; Multi Droppable: Yes; DatasheetVersion: Rev. 4; PackageVersion: Rev. L, 08/2009; PackageReference: U8-1; PackageDescription: 8-Pin Micro-MAX, Thin Shrink Small-Outline (U8-1), Body 3 x 3 mm, Pitch 0.65mm; Supplier 1: Mouser; Supplier Part Number 1: N/A; Mounting Technology: Surface Mount; Code_JEDEC: MO-187; ComponentLink1Description: Manufacturer URL; ComponentLink1URL: http://www.maximintegrated.com/; ComponentLink2Description: Datasheet; ComponentLink2URL: http://datasheets.maximintegrated.com/en/ds/MAX7500-MAX7504.pdf; ComponentLink3Description: Package Specification; ComponentLink3URL: http://pdfserv.maximintegrated.com/package_dwgs/21-0036.PDF
footprint MAXM-U8-1_N (SOP, 8-Leads, Body 3x3mm, Pitch 0.65mm, IPC Medium Density)
footprint MAXM-U8-1_L (SOP, 8-Leads, Body 3x3mm, Pitch 0.65mm, IPC High Density)
footprint MAXM-U8-1_M (SOP, 8-Leads, Body 3x3mm, Pitch 0.65mm, IPC Low Density)
pins: 1 SDA (io) "Serial Data Input/Output Line. Open drain. Connect SDA to a pullup resistor.", 2 SCL (in) "Serial Data Clock Input. Open drain. Connect SCL to a pullup resistor.", 3 OS (oc) "Overtemperature Shutdown Output. Open drain. Connect OS to a pullup resistor.", 4 GND (power) "Ground", 5 ~{RESET} (in) "Active-Low Reset Input. Pull R\E\S\E\T\ low for longer than the minimum reset pulse width to reset the I2C bus and all internal registers to their POR values.", 6 A1 (in) "2-Wire Interface Address Input. Connect A1 to GND or +VS to set the desired I2C bus address. Do not leave unconnected (see Table 1).", 7 A0 (in) "2-Wire Interface Address Input. Connect A0 to GND or +VS to set the desired I2C bus address. Do not leave unconnected (see Table 1).", 8 +VS (power) "Positive Supply Voltage Input. Bypass to GND with a 0.1uF bypass capacitor."

## MAX7504MUA+
designator U?
Digital Temperature Sensor and Thermal Watchdog, -55 to 125 degC, 8-Pin SOP (U8+1), Pb-Free; Generic Part Number: MAX7504; PartNumber: MAX7504MUA+; Alarm Output: Overt; Functions: Single Temperature Alarm; Interface: 2-Wire/I2C/SMBus; Multi Droppable: Yes; DatasheetVersion: Rev. 4; PackageVersion: Rev. L, 08/2009; PackageReference: U8+1; PackageDescription: 8-Pin Micro-MAX, Thin Shrink Small-Outline (U8+1), Body 3 x 3 mm, Pitch 0.65 mm; Supplier 1: Digi-Key; Supplier Part Number 1: MAX7504MUA+-ND; Supplier 2: Mouser; Supplier Part Number 2: 700-MAX7504MUA; Mounting Technology: Surface Mount; Code_JEDEC: MO-187; ComponentLink1Description: Manufacturer URL; ComponentLink1URL: http://www.maximintegrated.com/; ComponentLink2Description: Datasheet; ComponentLink2URL: http://datasheets.maximintegrated.com/en/ds/MAX7500-MAX7504.pdf; ComponentLink3Description: Package Specification; ComponentLink3URL: http://pdfserv.maximintegrated.com/package_dwgs/21-0036.PDF
footprint MAXM-U8+1_N (SOP, 8-Leads, Body 3x3mm, Pitch 0.65mm, IPC Medium Density)
footprint MAXM-U8+1_L (SOP, 8-Leads, Body 3x3mm, Pitch 0.65mm, IPC High Density)
footprint MAXM-U8+1_M (SOP, 8-Leads, Body 3x3mm, Pitch 0.65mm, IPC Low Density)
pins: 1 SDA (io) "Serial Data Input/Output Line. Open drain. Connect SDA to a pullup resistor.", 2 SCL (in) "Serial Data Clock Input. Open drain. Connect SCL to a pullup resistor.", 3 OS (oc) "Overtemperature Shutdown Output. Open drain. Connect OS to a pullup resistor.", 4 GND (power) "Ground", 5 ~{RESET} (in) "Active-Low Reset Input. Pull R\E\S\E\T\ low for longer than the minimum reset pulse width to reset the I2C bus and all internal registers to their POR values.", 6 A1 (in) "2-Wire Interface Address Input. Connect A1 to GND or +VS to set the desired I2C bus address. Do not leave unconnected (see Table 1).", 7 A0 (in) "2-Wire Interface Address Input. Connect A0 to GND or +VS to set the desired I2C bus address. Do not leave unconnected (see Table 1).", 8 +VS (power) "Positive Supply Voltage Input. Bypass to GND with a 0.1uF bypass capacitor."

## MAX7504MUA+T
designator U?
Digital Temperature Sensor and Thermal Watchdog, -55 to 125 degC, 8-Pin SOP (U8+1), Pb-Free, Tape and Reel; Generic Part Number: MAX7504; PartNumber: MAX7504MUA+T; Alarm Output: Overt; Functions: Single Temperature Alarm; Interface: 2-Wire/I2C/SMBus; Multi Droppable: Yes; DatasheetVersion: Rev. 4; PackageVersion: Rev. L, 08/2009; PackageReference: U8+1; PackageDescription: 8-Pin Micro-MAX, Thin Shrink Small-Outline (U8+1), Body 3 x 3 mm, Pitch 0.65 mm; Supplier 1: Digi-Key; Supplier Part Number 1: MAX7504MUA+T-ND; Supplier 2: Mouser; Supplier Part Number 2: 700-MAX7504MUAT; Packing: Tape and Reel; Mounting Technology: Surface Mount; Code_JEDEC: MO-187; ComponentLink1Description: Manufacturer URL; ComponentLink1URL: http://www.maximintegrated.com/; ComponentLink2Description: Datasheet; ComponentLink2URL: http://datasheets.maximintegrated.com/en/ds/MAX7500-MAX7504.pdf; ComponentLink3Description: Package Specification; ComponentLink3URL: http://pdfserv.maximintegrated.com/package_dwgs/21-0036.PDF
footprint MAXM-U8+1_N (SOP, 8-Leads, Body 3x3mm, Pitch 0.65mm, IPC Medium Density)
footprint MAXM-U8+1_L (SOP, 8-Leads, Body 3x3mm, Pitch 0.65mm, IPC High Density)
footprint MAXM-U8+1_M (SOP, 8-Leads, Body 3x3mm, Pitch 0.65mm, IPC Low Density)
pins: 1 SDA (io) "Serial Data Input/Output Line. Open drain. Connect SDA to a pullup resistor.", 2 SCL (in) "Serial Data Clock Input. Open drain. Connect SCL to a pullup resistor.", 3 OS (oc) "Overtemperature Shutdown Output. Open drain. Connect OS to a pullup resistor.", 4 GND (power) "Ground", 5 ~{RESET} (in) "Active-Low Reset Input. Pull R\E\S\E\T\ low for longer than the minimum reset pulse width to reset the I2C bus and all internal registers to their POR values.", 6 A1 (in) "2-Wire Interface Address Input. Connect A1 to GND or +VS to set the desired I2C bus address. Do not leave unconnected (see Table 1).", 7 A0 (in) "2-Wire Interface Address Input. Connect A0 to GND or +VS to set the desired I2C bus address. Do not leave unconnected (see Table 1).", 8 +VS (power) "Positive Supply Voltage Input. Bypass to GND with a 0.1uF bypass capacitor."

## MAX7504MUA-T
designator U?
Digital Temperature Sensor and Thermal Watchdog, -55 to 125 degC, 8-Pin SOP (U8-1), Tape and Reel; Generic Part Number: MAX7504; PartNumber: MAX7504MUA-T; Alarm Output: Overt; Functions: Single Temperature Alarm; Interface: 2-Wire/I2C/SMBus; Multi Droppable: Yes; DatasheetVersion: Rev. 4; PackageVersion: Rev. L, 08/2009; PackageReference: U8-1; PackageDescription: 8-Pin Micro-MAX, Thin Shrink Small-Outline (U8-1), Body 3 x 3 mm, Pitch 0.65mm; Supplier 1: Mouser; Supplier Part Number 1: N/A; Packing: Tape and Reel; Mounting Technology: Surface Mount; Code_JEDEC: MO-187; ComponentLink1Description: Manufacturer URL; ComponentLink1URL: http://www.maximintegrated.com/; ComponentLink2Description: Datasheet; ComponentLink2URL: http://datasheets.maximintegrated.com/en/ds/MAX7500-MAX7504.pdf; ComponentLink3Description: Package Specification; ComponentLink3URL: http://pdfserv.maximintegrated.com/package_dwgs/21-0036.PDF
footprint MAXM-U8-1_N (SOP, 8-Leads, Body 3x3mm, Pitch 0.65mm, IPC Medium Density)
footprint MAXM-U8-1_L (SOP, 8-Leads, Body 3x3mm, Pitch 0.65mm, IPC High Density)
footprint MAXM-U8-1_M (SOP, 8-Leads, Body 3x3mm, Pitch 0.65mm, IPC Low Density)
pins: 1 SDA (io) "Serial Data Input/Output Line. Open drain. Connect SDA to a pullup resistor.", 2 SCL (in) "Serial Data Clock Input. Open drain. Connect SCL to a pullup resistor.", 3 OS (oc) "Overtemperature Shutdown Output. Open drain. Connect OS to a pullup resistor.", 4 GND (power) "Ground", 5 ~{RESET} (in) "Active-Low Reset Input. Pull R\E\S\E\T\ low for longer than the minimum reset pulse width to reset the I2C bus and all internal registers to their POR values.", 6 A1 (in) "2-Wire Interface Address Input. Connect A1 to GND or +VS to set the desired I2C bus address. Do not leave unconnected (see Table 1).", 7 A0 (in) "2-Wire Interface Address Input. Connect A0 to GND or +VS to set the desired I2C bus address. Do not leave unconnected (see Table 1).", 8 +VS (power) "Positive Supply Voltage Input. Bypass to GND with a 0.1uF bypass capacitor."